# Altium schematic symbol library UDAC.SchLib: 16 symbols
Pins are listed as number, name and electrical type; pins without a type are passive.

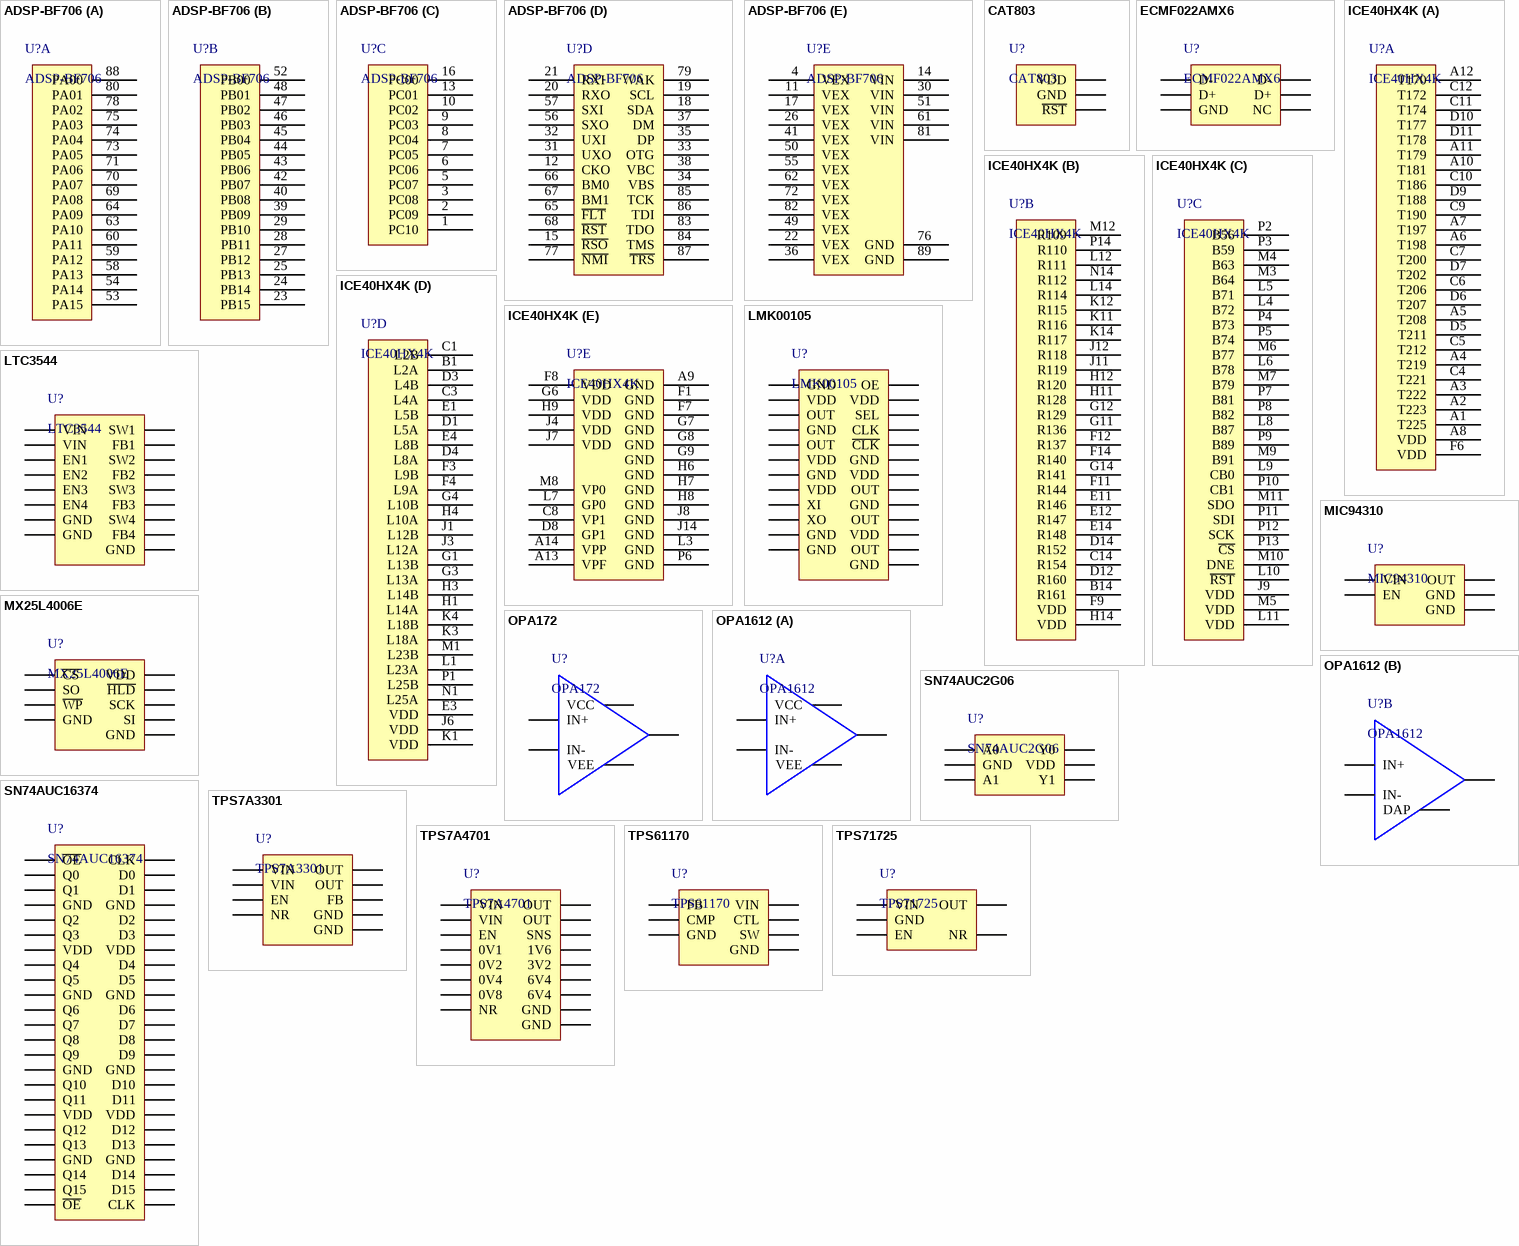
[diagram p0: symbols ADSP-BF706 to TPS71725]

## ADSP-BF706
designator U?
footprint QFN88 (QFN88 12*12mm)
part A pins: 53 PA15, 54 PA14, 58 PA13, 59 PA12, 60 PA11, 63 PA10, 64 PA09, 69 PA08, 70 PA07, 71 PA06, 73 PA05, 74 PA04, 75 PA03, 78 PA02, 80 PA01, 88 PA00
part B pins: 23 PB15, 24 PB14, 25 PB13, 27 PB12, 28 PB11, 29 PB10, 39 PB09, 40 PB08, 42 PB07, 43 PB06, 44 PB05, 45 PB04, 46 PB03, 47 PB02, 48 PB01, 52 PB00
part C pins: 1 PC10, 2 PC09, 3 PC08, 5 PC07, 6 PC06, 7 PC05, 8 PC04, 9 PC03, 10 PC02, 13 PC01, 16 PC00
part D pins: 12 CKO, 15 ~{RSO}, 18 SDA, 19 SCL, 20 RXO, 21 RXI, 31 UXO, 32 UXI, 33 OTG, 34 VBS, 35 DP, 37 DM, 38 VBC, 56 SXO, 57 SXI, 65 ~{FLT}, 66 BM0, 67 BM1, 68 ~{RST}, 77 ~{NMI}, 79 WAK, 83 TDO, 84 TMS, 85 TCK, 86 TDI, 87 ~{TRS}
part E pins: 4 VEX, 11 VEX, 14 VIN, 17 VEX, 22 VEX, 26 VEX, 30 VIN, 36 VEX, 41 VEX, 49 VEX, 50 VEX, 51 VIN, 55 VEX, 61 VIN, 62 VEX, 72 VEX, 76 GND, 81 VIN, 82 VEX, 89 GND

## CAT803
designator U?
footprint SC70 (SC70 2*2.2mm)
pins: 1 VDD, 2 GND, 3 ~{RST}

## ECMF022AMX6
designator U?
footprint UDFN6 (UDFN6 1.5*1.7mm)
pins: 1 D-, 2 D+, 3 GND, 4 NC, 5 D+, 6 D-

## ICE40HX4K
designator U?
Manufacturer: Lattice Semiconductor; PartNumber: ICE40HX4K-CB132; Embedded RAM Bits: 80K; Logic Cells: 3520; Packing: Tray; Phase-Locked Loops: 2; Supply Voltage: 1.2V; DatasheetVersion: Rev. 02.9; PackageVersion: Rev. 03.9, 02/2013; PackageReference: csBGA-132; PackageDescription: 132-Ball Chip Scale Ball Grid Array, Body 8 x 8 mm, Pitch 0.5 mm; Supplier 1: Digi-Key; Supplier Part Number 1: 220-1571-ND; Supplier 2: Farnell; Supplier Part Number 2: 2252859; Supplier 3: Newark; Supplier Part Number 3: 48W5878; Supplier 4: Mouser; Supplier Part Number 4: 842-ICE40HX4K-CB132; RoHS: TRUE; Mounting Technology: Surface Mount; ComponentLink1Description: Manufacturer URL; ComponentLink1URL: http://www.latticesemi.com/en; ComponentLink2Description: Datasheet; ComponentLink2URL: http://www.latticesemi.com/~/media/Documents/DataSheets/iCE/iCE40LPHXFamilyDataSheet.pdf; ComponentLink3Description: Package Specification; ComponentLink3URL: http://www.latticesemi.com/lit/docs/package/pkg.pdf
footprint BGA132 (BGA132 8.0*8.0mm)
part A pins: A1 T225, A2 T223, A3 T222, A4 T219, A5 T208, A6 T198, A7 T197, A8 VDD "VCCIO - The power supply pins for I/O Bank 0. Dedicated pins. All VCCIOs located in the same bank are tied to the same supply.", A10 T181, A11 T179, A12 T170, C4 T221, C5 T212, C6 T206, C7 T200, C9 T190, C10 T186, C11 T174, C12 T172, D5 T211, D6 T207, D7 T202, D9 T188, D10 T177, D11 T178, F6 VDD "VCCIO - The power supply pins for I/O Bank 0. Dedicated pins. All VCCIOs located in the same bank are tied to the same supply."
part B pins: B14 R161, C14 R154, D12 R160, D14 R152, E11 R146, E12 R147, E14 R148, F9 VDD "VCCIO - The power supply pins for I/O Bank 1. Dedicated pins. All VCCIOs located in the same bank are tied to the same supply.", F11 R144, F12 R137, F14 R140, G11 R136, G12 R129, G14 R141, H11 R128, H12 R120, H14 VDD "VCCIO - The power supply pins for I/O Bank 1. Dedicated pins. All VCCIOs located in the same bank are tied to the same supply.", J11 R119, J12 R118, K11 R116, K12 R115, K14 R117, L12 R111, L14 R114, M12 R109, N14 R112, P14 R110
part C pins: J9 VDD "VCCIO - The power supply pins for I/O Bank 2. Dedicated pins. All VCCIOs located in the same bank are tied to the same supply.", L4 B72, L5 B71, L6 B78, L8 B87, L9 CB0, L10 ~{RST} "Configuration Reset, active Low. Dedicated input. No internal pull-up resistor. Either actively drive externally or connect a 10 KOhm pull-up resistor to VCCIO_2.", L11 VDD "SPI interface voltage supply input. Must have a valid voltage even if configuring from NVCM.", M3 B64, M4 B63, M5 VDD "VCCIO - The power supply pins for I/O Bank 2. Dedicated pins. All VCCIOs located in the same bank are tied to the same supply.", M6 B77, M7 B79, M9 B91, M10 DNE "Configuration Done. Includes a permanent weak pull-up resistor to VCCIO_2. If driving external devices with CDONE output, an external pull-up resistor to VCCIO_2 may be required. Refer to the TN1248, iCE40 Programming and (See Datasheet)", M11 SDO, P2 B56, P3 B59, P4 B73, P5 B74, P7 B81, P8 B82, P9 B89, P10 CB1, P11 SDI, P12 SCK, P13 ~{CS}
part D pins: B1 L2A, C1 L2B, C3 L4A, D1 L5A, D3 L4B, D4 L8A, E1 L5B, E3 VDD "VCCIO - The power supply pins for I/O Bank 3. Dedicated pins. All VCCIOs located in the same bank are tied to the same supply.", E4 L8B, F3 L9B, F4 L9A, G1 L13B, G3 L13A, G4 L10B, H1 L14A, H3 L14B, H4 L10A, J1 L12B, J3 L12A, J6 VDD "VCCIO - The power supply pins for I/O Bank 3. Dedicated pins. All VCCIOs located in the same bank are tied to the same supply.", K1 VDD "VCCIO - The power supply pins for I/O Bank 3. Dedicated pins. All VCCIOs located in the same bank are tied to the same supply.", K3 L18A, K4 L18B, L1 L23A, M1 L23B, N1 L25A, P1 L25B
part E pins: A9 GND (power) "GND - Ground. Dedicated pins. It is recommended that all GNDs are tied together.", A13 VPF (power) "Optional fast NVCM programming supply. VPP_FAST, used only for fast production programming, must be left floating or unconnected in applications, except CM36 and CM49 packages MUST have the VPP_FAST ball connected to VCCIO_0 (See Datasheet)", A14 VPP (power) "VPP_2V5 NVCM programming and operating supply", C8 VP1 (power) "PLL VCC - Power. Dedicated pins. The PLL requires a separate power and ground that is quiet and stable to reduce the output clock jitter of the PLL.", D8 GP1 (power) "PLL GND - Ground. Dedicated pins. The sysCLOCK PLL has the DC ground connection made on the FPGA, so the external PLL ground connection (GNDPLL) must NOT be connected to the board’s ground.", F1 GND (power) "GND - Ground. Dedicated pins. It is recommended that all GNDs are tied together.", F7 GND (power) "GND - Ground. Dedicated pins. It is recommended that all GNDs are tied together.", F8 VDD (power) "VCC - The power supply pins for core logic. Dedicated pins. It is recommended that all VCCs are tied to the same supply.", G6 VDD (power) "VCC - The power supply pins for core logic. Dedicated pins. It is recommended that all VCCs are tied to the same supply.", G7 GND (power) "GND - Ground. Dedicated pins. It is recommended that all GNDs are tied together.", G8 GND (power) "GND - Ground. Dedicated pins. It is recommended that all GNDs are tied together.", G9 GND (power) "GND - Ground. Dedicated pins. It is recommended that all GNDs are tied together.", H6 GND (power) "GND - Ground. Dedicated pins. It is recommended that all GNDs are tied together.", H7 GND (power) "GND - Ground. Dedicated pins. It is recommended that all GNDs are tied together.", H8 GND (power) "GND - Ground. Dedicated pins. It is recommended that all GNDs are tied together.", H9 VDD (power) "VCC - The power supply pins for core logic. Dedicated pins. It is recommended that all VCCs are tied to the same supply.", J4 VDD (power) "VCC - The power supply pins for core logic. Dedicated pins. It is recommended that all VCCs are tied to the same supply.", J7 VDD (power) "VCC - The power supply pins for core logic. Dedicated pins. It is recommended that all VCCs are tied to the same supply.", J8 GND (power) "GND - Ground. Dedicated pins. It is recommended that all GNDs are tied together.", J14 GND (power) "GND - Ground. Dedicated pins. It is recommended that all GNDs are tied together.", L3 GND (power) "GND - Ground. Dedicated pins. It is recommended that all GNDs are tied together.", L7 GP0 (power) "PLL GND - Ground. Dedicated pins. The sysCLOCK PLL has the DC ground connection made on the FPGA, so the external PLL ground connection (GNDPLL) must NOT be connected to the board’s ground.", M8 VP0 (power) "PLL VCC - Power. Dedicated pins. The PLL requires a separate power and ground that is quiet and stable to reduce the output clock jitter of the PLL.", P6 GND (power) "GND - Ground. Dedicated pins. It is recommended that all GNDs are tied together."

## LMK00105
designator U?
footprint QFN24 (QFN24 4*4mm)
pins: 1 GND, 2 VDD, 3 OUT, 4 GND, 5 OUT, 6 VDD, 7 GND, 8 VDD, 9 XI, 10 XO, 11 GND, 12 GND, 13 OUT, 14 VDD, 15 OUT, 16 GND, 17 OUT, 18 VDD, 19 GND, 20 ~{CLK}, 21 CLK, 22 SEL, 23 VDD, 24 OE, 25 GND

## LTC3544
designator U?
footprint QFN16 (QFN16 3*3mm)
pins: 1 FB3, 2 FB2, 3 EN2, 4 SW3, 5 SW2, 6 GND, 7 VIN, 8 SW4, 9 EN4, 10 FB4, 11 FB1, 12 EN1, 13 SW1, 14 GND, 15 VIN, 16 EN3, 17 GND

## MIC94310
designator U?
footprint DFN4 (DFN4 1.2*1.6mm)
pins: 1 OUT, 2 GND, 3 EN, 4 VIN, 5 GND

## MX25L4006E
designator U?
footprint UDFN8 (USON 2*3mm)
pins: 1 ~{CS}, 2 SO, 3 ~{WP}, 4 GND, 5 SI, 6 SCK, 7 ~{HLD}, 8 VDD, 9 GND

## OPA172
designator U?
footprint SON8 (SON 3*3mm)
footprint SC705 (SC70-5 2*2.1mm)
pins: 1, 2 VEE, 3 IN+, 4 IN-, 5 VCC

## OPA1612
designator U?
footprint DFN8 (DFN 3*3mm)
part A pins: 1, 2 IN-, 3 IN+, 4 VEE, 8 VCC
part B pins: 5 IN+, 6 IN-, 7, 9 DAP

## SN74AUC2G06
designator U?
footprint SC706 (SC70-6 2*2.1mm)
pins: 1 A0, 2 GND, 3 A1, 4 Y1, 5 VDD, 6 Y0

## SN74AUC16374
designator U?
footprint TSSOP48 (TSSOP48 6.4*9.7mm)
pins: 1 ~{OE}, 2 Q0, 3 Q1, 4 GND, 5 Q2, 6 Q3, 7 VDD, 8 Q4, 9 Q5, 10 GND, 11 Q6, 12 Q7, 13 Q8, 14 Q9, 15 GND, 16 Q10, 17 Q11, 18 VDD, 19 Q12, 20 Q13, 21 GND, 22 Q14, 23 Q15, 24 ~{OE}, 25 CLK, 26 D15, 27 D14, 28 GND, 29 D13, 30 D12, 31 VDD, 32 D11, 33 D10, 34 GND, 35 D9, 36 D8, 37 D7, 38 D6, 39 GND, 40 D5, 41 D4, 42 VDD, 43 D3, 44 D2, 45 GND, 46 D1, 47 D0, 48 CLK

## TPS7A3301
designator U?
footprint QFN20 (QFN20 4*4mm)
pins: 1 OUT, 3 FB, 7 GND, 13 EN, 14 NR, 15 VIN, 16 VIN, 20 OUT, 21 GND

## TPS7A4701
designator U?
footprint QFN20 (QFN20 4*4mm)
pins: 1 OUT, 3 SNS, 4 6V4, 5 6V4, 6 3V2, 7 GND, 8 1V6, 9 0V8, 10 0V4, 11 0V2, 12 0V1, 13 EN, 14 NR, 15 VIN, 16 VIN, 20 OUT, 21 GND

## TPS61170
designator U?
footprint DFN6 (DFN6 2*2mm)
pins: 1 FB, 2 CMP, 3 GND, 4 SW, 5 CTL, 6 VIN, 7 GND

## TPS71725
designator U?
footprint SC705 (SC70-5 2*2.2mm)
pins: 1 VIN, 2 GND, 3 EN, 4 NR, 5 OUT